# EAGLE library part ATMEGA328P (library atmega)
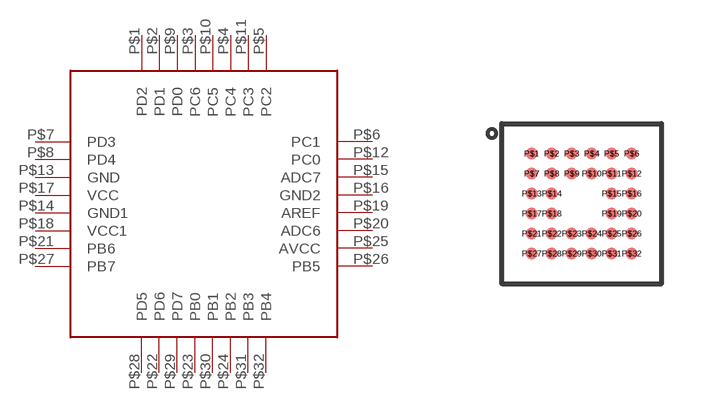
[diagram p0: symbol with the pads of ATMEGA328PBGA; footprint ATMEGA328PBGA]

Designator prefix -

## ATMEGA328P  [ATMEGA328PBGA]
P$1  PD2
P$2  PD1
P$3  PC6
P$4  PC4
P$5  PC2
P$6  PC1
P$7  PD3
P$8  PD4
P$9  PD0
P$10  PC5
P$11  PC3
P$12  PC0
P$13  GND
P$14  GND1
P$15  ADC7
P$16  GND2
P$17  VCC
P$18  VCC1
P$19  AREF
P$20  ADC6
P$21  PB6
P$22  PD6
P$23  PB0
P$24  PB2
P$25  AVCC
P$26  PB5
P$27  PB7
P$28  PD5
P$29  PD7
P$30  PB1
P$31  PB3
P$32  PB4

## Footprint ATMEGA328PBGA (pad centres in mm)
smd 0.3 x 0.3: P$1 -1,1; P$2 -0.5,1; P$3 0,1; P$4 0.5,1; P$5 1,1; P$6 1.5,1; P$7 -1,0.5; P$8 -0.5,0.5; P$9 0,0.5; P$10 0.5,0.5; P$11 1,0.5; P$12 1.5,0.5; P$13 -1,0; P$14 -0.5,0; P$15 1,0; P$16 1.5,0; P$17 -1,-0.5; P$18 -0.5,-0.5; P$19 1,-0.5; P$20 1.5,-0.5; P$21 -1,-1; P$22 -0.5,-1; P$23 0,-1; P$24 0.5,-1; P$25 1,-1; P$26 1.5,-1; P$27 -1,-1.5; P$28 -0.5,-1.5; P$29 0,-1.5; P$30 0.5,-1.5; P$31 1,-1.5; P$32 1.5,-1.5